# EAGLE library part AD7414ARTZ-1REEL7 (library AD7414ARTZ-1REEL7)
10-bit temperature-to-digital converter Temperature range: 40C to +125C Typical accuracy of +/-0.5C at +40C SMBus/I2C-compatible serial interface 3 A power-down current Temperature conversion time: 29 s typ Space-saving 6-lead (AD7414) and 5-lead (AD7415) SOT-23 packages Pin selectable addressing via AS Overtemperature indicator (AD7414 Only) SMBus alert function (AD7414 only) 4 versions allow 8 I2C addresses (AD7414) 2 versions allow 6 I2C addresses (AD7415) Source: Datasheet <https://www.analog.com/media/en/technical-documentation/data-sheets/AD7414_7415.pdf>
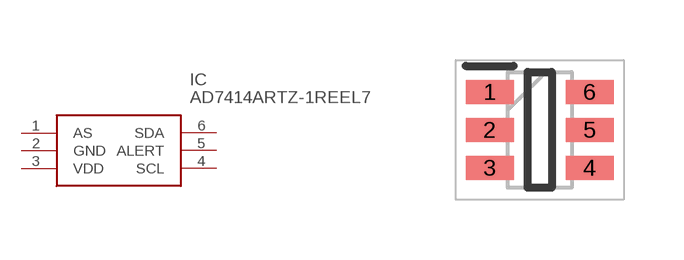
[diagram p0: symbol with the pads of SOT95P280X145-6N; footprint SOT95P280X145-6N]

Designator prefix IC

## AD7414ARTZ-1REEL7 (Arrow_Part_Number: AD7414ARTZ-1REEL7; Arrow_Price-Stock: https://www.arrow.com/en/products/ad7414artz-1reel7/analog-devices?region=nac; Description: 10-bit temperature-to-digital converter Temperature range: 40C to +125C Typical accuracy of +/-0.5C at +40C SMBus/I2C-compatible serial interface 3 A power-down current Temperature conversion time: 29 s typ Space-saving 6-lead (AD7414) and 5-lead (AD7415) SOT-23 packages Pin selectable addressing via AS Overtemperature indicator (AD7414 Only) SMBus alert function (AD7414 only) 4 versions allow 8 I2C addresses (AD7414) 2 versions allow 6 I2C addresses (AD7415); Height: 1.45mm; Manufacturer_Name: Analog Devices; Manufacturer_Part_Number: AD7414ARTZ-1REEL7; Mouser_Part_Number: 584-AD7414ARTZ-1R7; Mouser_Price-Stock: https://www.mouser.co.uk/ProductDetail/Analog-Devices/AD7414ARTZ-1REEL7?qs=NmRFExCfTkEOVHQ3uEvF5g%3D%3D)  [SOT95P280X145-6N]
1  AS
2  GND
3  VDD
4  SCL
5  ALERT
6  SDA

## Footprint SOT95P280X145-6N (pad centres in mm)
(RJ-6)
smd 1.2 x 0.6: 1 -1.25,0.95; 2 -1.25,0; 3 -1.25,-0.95; 4 1.25,-0.95; 5 1.25,0; 6 1.25,0.95